# EAGLE library part M18 (library custom)
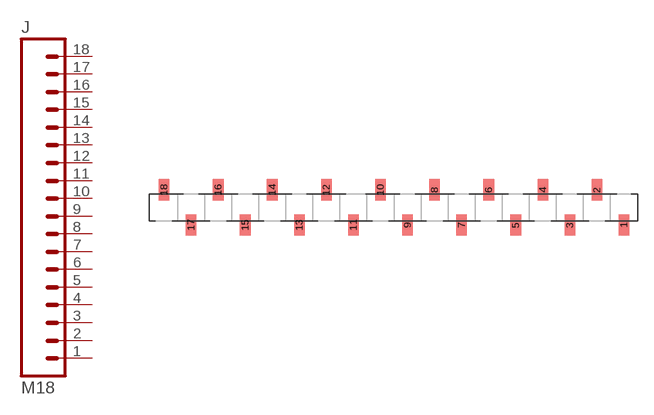
[diagram p126: symbol with the pads of 1X18SMD; footprint 1X18SMD]

Designator prefix J

## M18  [1X18SMD]
1  1  pas
2  2  pas
3  3  pas
4  4  pas
5  5  pas
6  6  pas
7  7  pas
8  8  pas
9  9  pas
10  10  pas
11  11  pas
12  12  pas
13  13  pas
14  14  pas
15  15  pas
16  16  pas
17  17  pas
18  18  pas

## Footprint 1X18SMD (pad centres in mm)
smd 1 x 2: 1 43.18,-1.65; 2 40.64,1.65; 3 38.1,-1.65; 4 35.56,1.65; 5 33.02,-1.65; 6 30.48,1.65; 7 27.94,-1.65; 8 25.4,1.65; 9 22.86,-1.65; 10 20.32,1.65; 11 17.78,-1.65; 12 15.24,1.65; 13 12.7,-1.65; 14 10.16,1.65; 15 7.62,-1.65; 16 5.08,1.65; 17 2.54,-1.65; 18 0,1.65